# Altium footprint library PCB - CONNECTOR - SAMTEC IPL1-102-01-L-D-K.PCBLIB: 1 footprints
Each footprint in its own frame and in the unit in brackets; x right, y up, seen from the top. Pads: shape width x height; smd on the part's side, far side on the other; paste and mask are expansions set on the pad; w line width, h text height; cw(c..) or ccw(c..) is an arc to the next point about the centre after c.
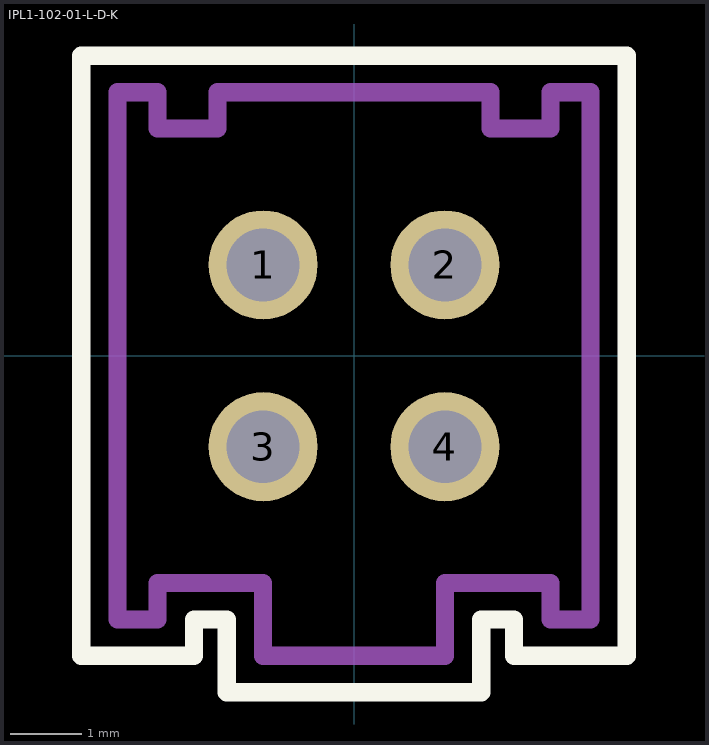
[diagram p0: the footprint, top view; thin cyan lines are the x and y axes]

## IPL1-102-01-L-D-K [mil]
pads (4):
  round 60 hole 40 mask+3: 1(-50,50) 2(50,50) 3(-50,-50) 4(50,-50)
Top Overlay:
  lines w10: -95,165 95,165 ; -88,165 -150,165 -150,-165 -88,-165 -88,-145 -70,-145 -70,-185 70,-185 70,-145 88,-145 88,-165 150,-165 150,165 88,165
M5 Assembly Top:
  lines w10: -130,-145 -130,145 -108,145 -108,125 -75,125 -75,145 75,145 75,125 108,125 108,145 130,145 130,-145 108,-145 108,-125 50,-125 50,-165 -50,-165 -50,-125 -108,-125 -108,-145 -130,-145
  text ".Designator" at -74.8,-39.37 h60
3D body "IPL1-102-01-F-D-K.stp": height 320, standoff -120, extent -130,-165 130,145